# Altium footprint library OSCL550P795X375X250-4N.PcbLib: 1 footprints
Each footprint in its own frame and in the unit in brackets; x right, y up, seen from the top. Pads: shape width x height; smd on the part's side, far side on the other; paste and mask are expansions set on the pad; w line width, h text height; cw(c..) or ccw(c..) is an arc to the next point about the centre after c.
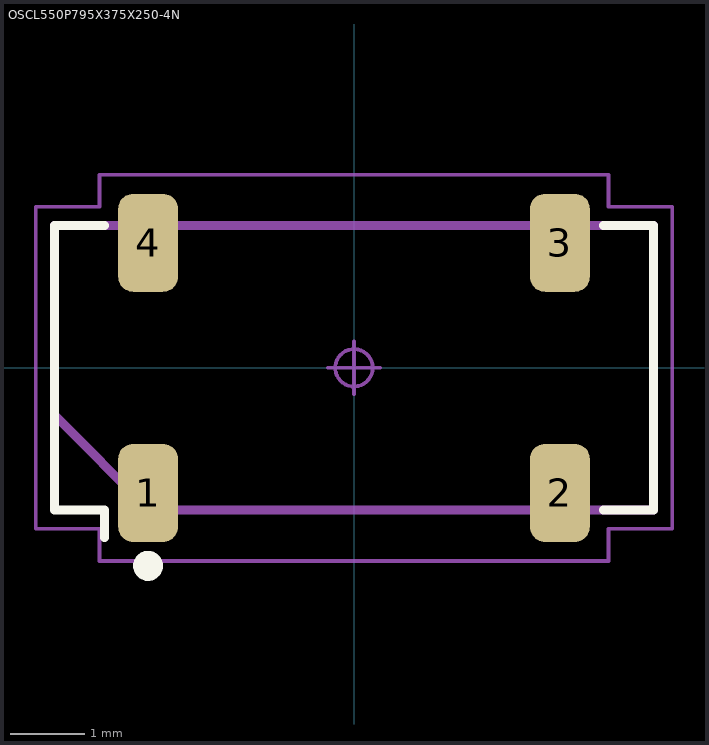
[diagram p0: the footprint, top view; thin cyan lines are the x and y axes]

## OSCL550P795X375X250-4N [mm] "Oscillator, L-Bend, 5.50 mm pitch; 4 pin, 7.95 mm L X 3.75 mm W X 2.50 mm H body"
height 2.5
pads (4):
  rrect50% 0.8x1.31 smd: 1(-2.75,-1.67) 2(2.75,-1.67) 3(2.75,1.67) 4(-2.75,1.67)
Top Overlay:
  circle w0.2: c-2.75,-2.645 r0.1
  lines w0.12: -3.33,-2.265 -3.33,-1.9 -4,-1.9 -4,1.9 -3.33,1.9 ; 3.33,-1.9 4,-1.9 4,1.9 3.33,1.9
Mechanical 11:
  lines w0.12: -4,-0.633 -2.733,-1.9 4,-1.9 4,1.9 -4,1.9 -4,-0.633
Mechanical 15:
  circle w0.05: c0,0 r0.25
  lines w0.05: -0.35,0 0.35,0 ; 0,-0.35 0,0.35 ; -4.25,-2.15 -3.4,-2.15 -3.4,-2.58 3.4,-2.58 3.4,-2.15 4.25,-2.15 4.25,2.15 3.4,2.15 3.4,2.58 -3.4,2.58 -3.4,2.15 -4.25,2.15 -4.25,-2.15
3D body: height 2.65, standoff -0.01, extent -4,-2 4,2